# Altium footprint library FE 2-SMD.PcbLib: 7 footprints
Each footprint in its own frame and in the unit in brackets; x right, y up, seen from the top. Pads: shape width x height; smd on the part's side, far side on the other; paste and mask are expansions set on the pad; w line width, h text height; cw(c..) or ccw(c..) is an arc to the next point about the centre after c.
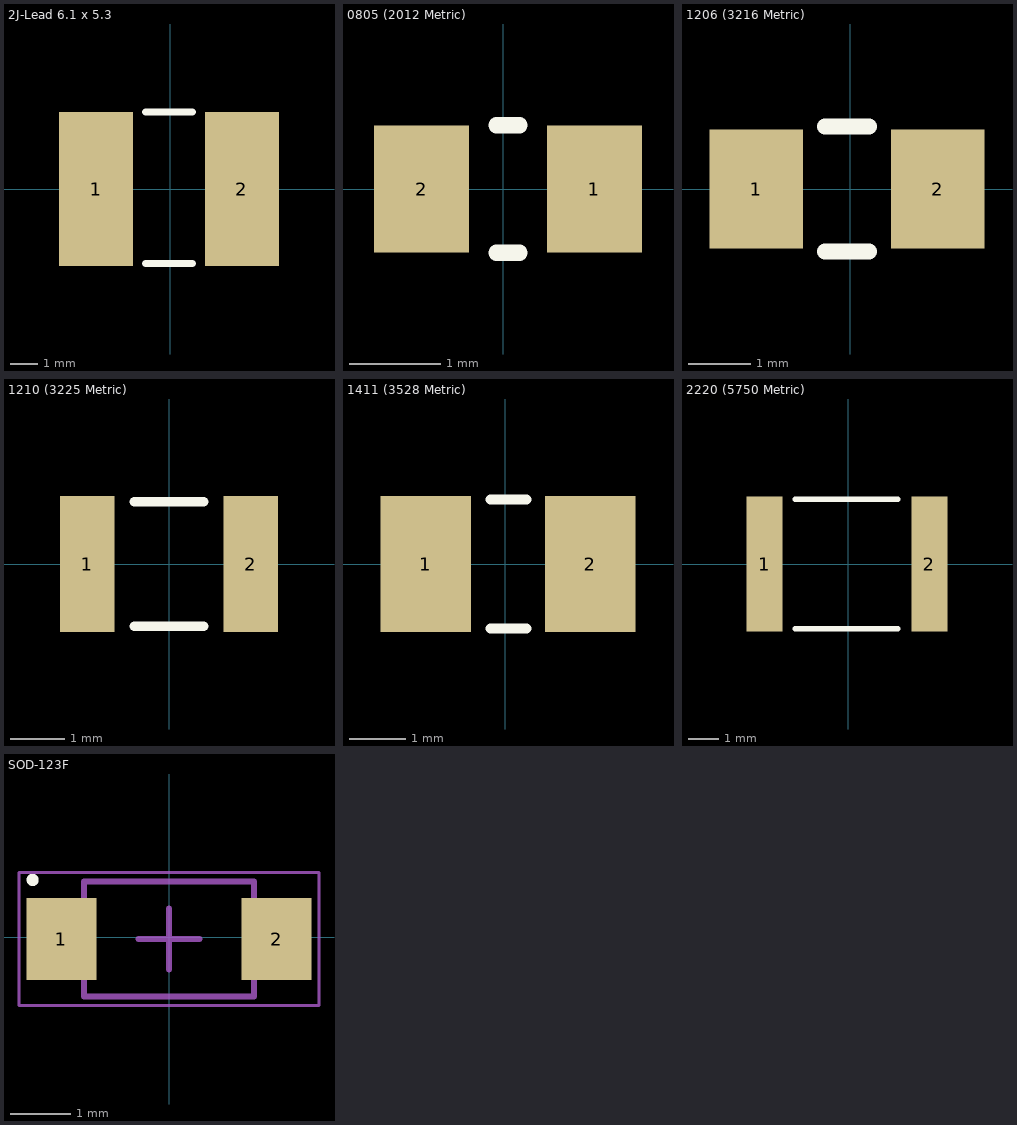
[diagram p0: the footprints below, top view; thin cyan lines are the x and y axes]

## 2J-Lead 6.1 x 5.3 [mm]
pads (2):
  rect 2.7x5.6 smd: 1(-2.7,0) 2(2.6,0)
Top Overlay:
  lines w0.254: -0.9,-2.7 0.8,-2.7 ; -0.9,2.8 0.8,2.8
3D body: height 5, standoff 0.06, extent -3.4,-2.8 3.3,2.8

## 0805 (2012 Metric) [mil]
pads (2):
  rect 41x55 smd: 1(39.37,0) 2(-35.43,0)
Top Overlay:
  lines w7: -2.95,-27.56 6.89,-27.56 ; -2.95,27.56 6.89,27.56
3D body: height 31.5, standoff 0, extent -38.5,-28.56 41.5,27.44

## 1206 (3216 Metric) [mm]
pads (2):
  rect 1.5x1.9 smd: 1(-1.5,0) 2(1.4,0)
Top Overlay:
  lines w0.254: -0.4,-1 0.3,-1 ; -0.4,1 0.3,1
3D body: height 1.3, standoff 0, extent -1.397,-0.889 1.4,0.889

## 1210 (3225 Metric) [mm]
pads (2):
  rect 1x2.5 smd: 1(-1.5,0) 2(1.5,0)
Top Overlay:
  lines w0.178: -0.635,-1.143 0.635,-1.143 ; -0.635,1.143 0.635,1.143
3D body: height 0.76, standoff 0.05, extent -1.45,-1.2 1.45,1.2

## 1411 (3528 Metric) [mm]
pads (2):
  rect 1.6x2.4 smd: 1(-1.397,0) 2(1.503,0)
Top Overlay:
  lines w0.178: -0.254,-1.143 0.381,-1.143 ; -0.254,1.143 0.381,1.143

## 2220 (5750 Metric) [mm]
pads (2):
  rect 1.2x4.5 smd: 1(-2.794,0) 2(2.706,0)
Top Overlay:
  lines w0.178: -1.778,-2.159 1.651,-2.159 ; -1.778,2.159 1.651,2.159

## SOD-123F [mm]
pads (2):
  rect 1.15x1.35 smd: 1(-1.775,-0.027) 2(1.775,-0.027)
Top Overlay:
  circle w0.1: c-2.25,0.948 r0.05
Mechanical 13:
  lines w0.1: -1.4,-0.977 1.4,-0.977 1.4,0.923 -1.4,0.923 -1.4,-0.977
Mechanical 15:
  lines w0.05: -2.475,-1.127 2.475,-1.127 2.475,1.073 -2.475,1.073 -2.475,-1.127
  lines w0.1: -0.5,-0.027 0.5,-0.027 ; 0,-0.527 0,0.473
3D body: height 1.15, standoff 0, extent -1.4,-0.977 1.4,0.923